# Altium schematic symbol library SCH - MCU - STM32 - ST MICROELECTRONICS STM32N657I0HXQ VFBGA178.SchLib: 1 symbol
Pins are listed as number, name and electrical type; pins without a type are passive.

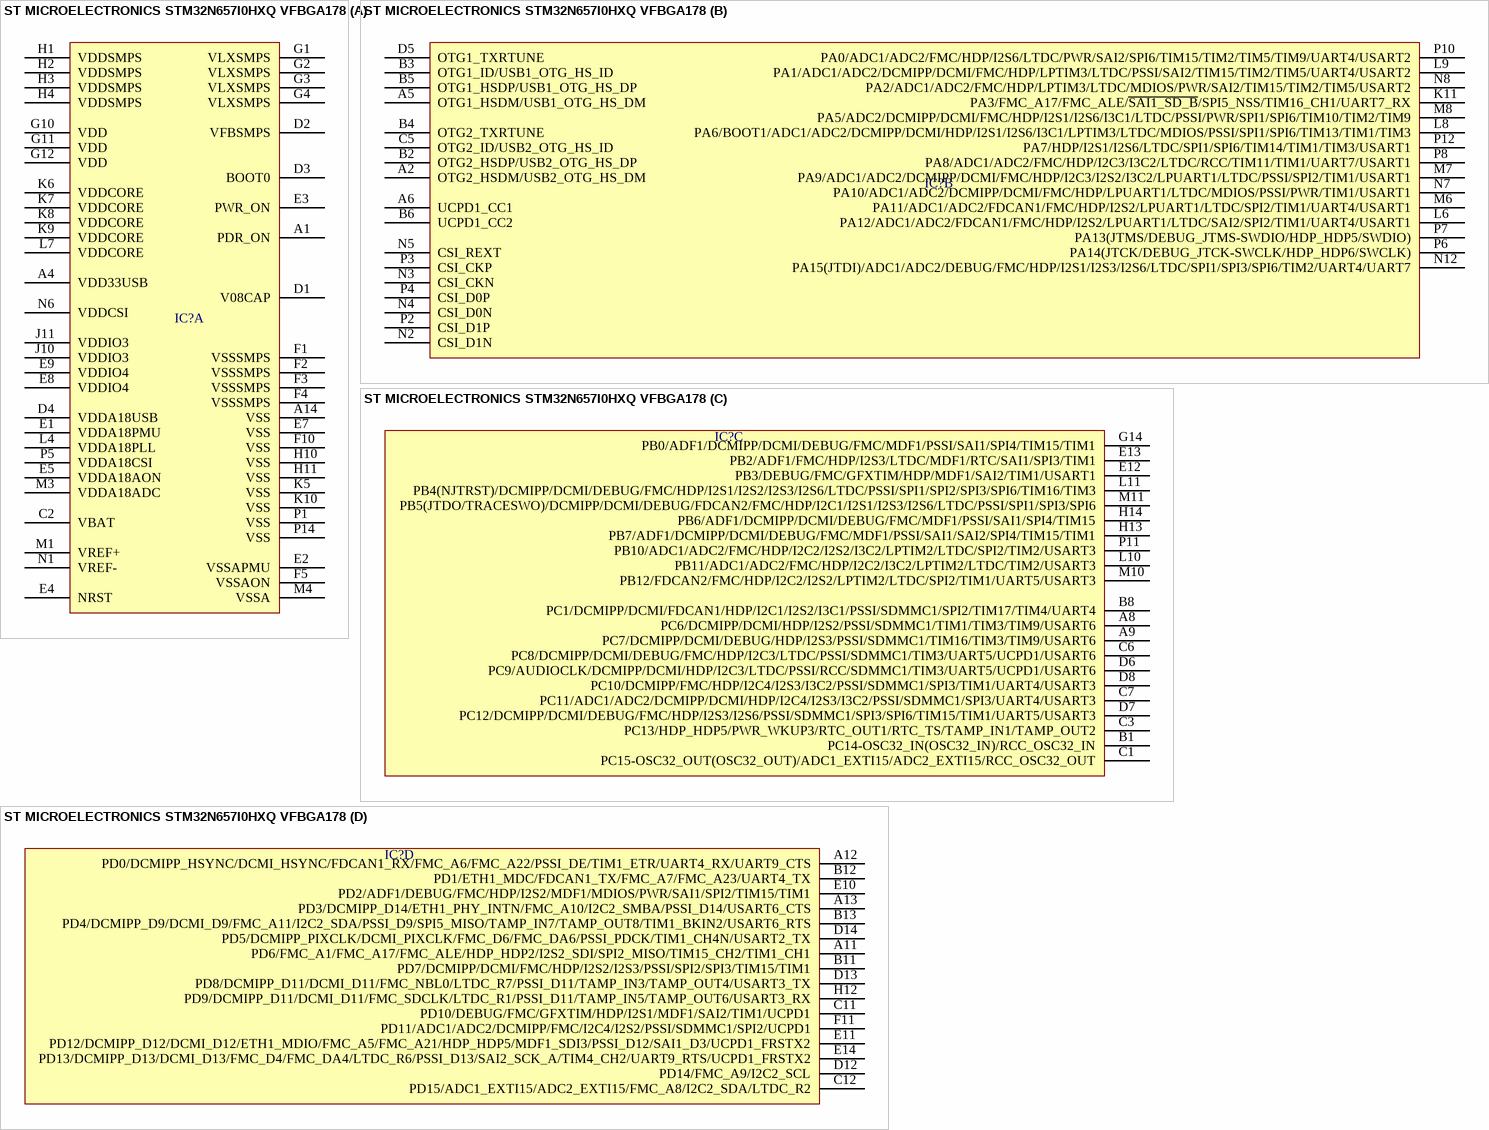
[diagram p0: symbol ST MICROELECTRONICS STM32N657I0HXQ VFBGA178]

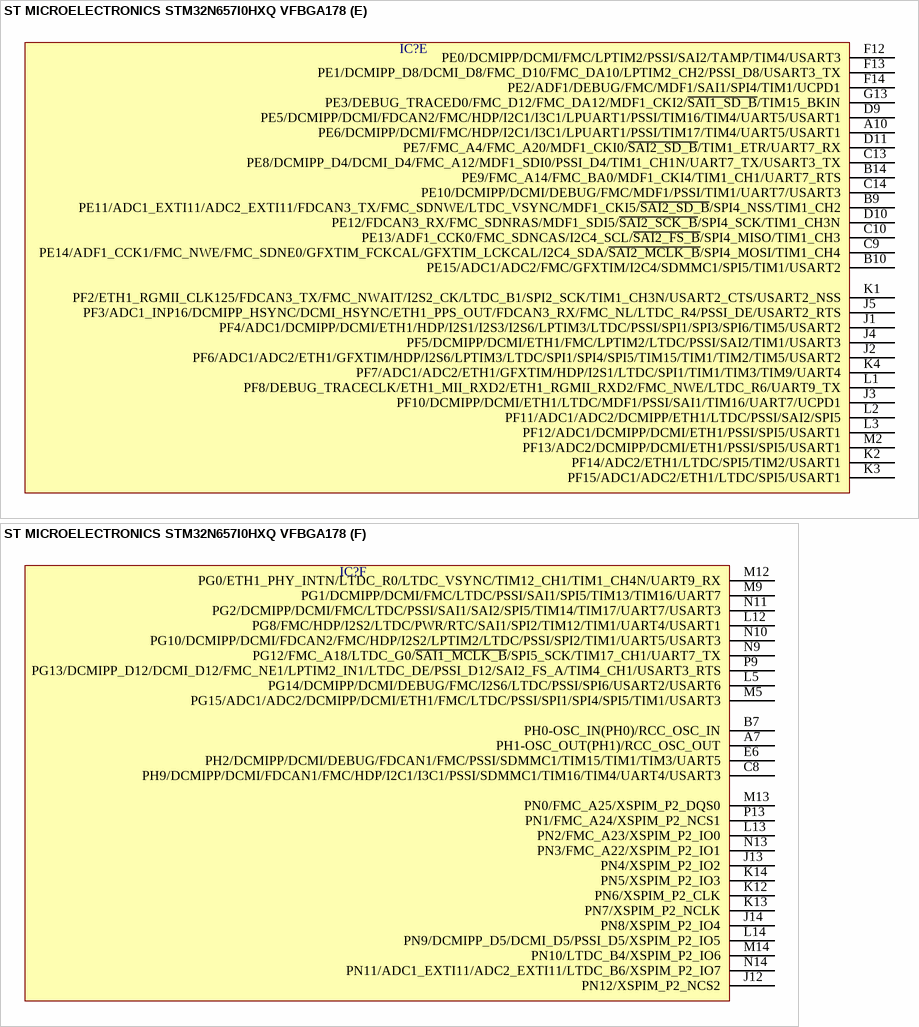
[diagram p1: symbol ST MICROELECTRONICS STM32N657I0HXQ VFBGA178]

## ST MICROELECTRONICS STM32N657I0HXQ VFBGA178
designator IC?
part A pins: A1 PDR_ON, A4 VDD33USB, A14 VSS, C2 VBAT, D1 V08CAP, D2 VFBSMPS, D3 BOOT0, D4 VDDA18USB, E1 VDDA18PMU, E2 VSSAPMU, E3 PWR_ON, E4 NRST, E5 VDDA18AON, E7 VSS, E8 VDDIO4, E9 VDDIO4, F1 VSSSMPS, F2 VSSSMPS, F3 VSSSMPS, F4 VSSSMPS, F5 VSSAON, F10 VSS, G1 VLXSMPS, G2 VLXSMPS, G3 VLXSMPS, G4 VLXSMPS, G10 VDD, G11 VDD, G12 VDD, H1 VDDSMPS, H2 VDDSMPS, H3 VDDSMPS, H4 VDDSMPS, H10 VSS, H11 VSS, J10 VDDIO3, J11 VDDIO3, K5 VSS, K6 VDDCORE, K7 VDDCORE, K8 VDDCORE, K9 VDDCORE, K10 VSS, L4 VDDA18PLL, L7 VDDCORE, M1 VREF+, M3 VDDA18ADC, M4 VSSA, N1 VREF-, N6 VDDCSI, P1 VSS, P5 VDDA18CSI, P14 VSS
part B pins: A2 OTG2_HSDM/USB2_OTG_HS_DM, A5 OTG1_HSDM/USB1_OTG_HS_DM, A6 UCPD1_CC1, B2 OTG2_HSDP/USB2_OTG_HS_DP, B3 OTG1_ID/USB1_OTG_HS_ID, B4 OTG2_TXRTUNE, B5 OTG1_HSDP/USB1_OTG_HS_DP, B6 UCPD1_CC2, C5 OTG2_ID/USB2_OTG_HS_ID, D5 OTG1_TXRTUNE, K11 PA3/FMC_A17/FMC_ALE/~{SAI1_SD_B}/SPI5_NSS/TIM16_CH1/UART7_RX, L6 PA12/ADC1/ADC2/FDCAN1/FMC/HDP/I2S2/LPUART1/LTDC/SAI2/SPI2/TIM1/UART4/USART1, L8 PA6/BOOT1/ADC1/ADC2/DCMIPP/DCMI/HDP/I2S1/I2S6/I3C1/LPTIM3/LTDC/MDIOS/PSSI/SPI1/SPI6/TIM13/TIM1/TIM3, L9 PA1/ADC1/ADC2/DCMIPP/DCMI/FMC/HDP/LPTIM3/LTDC/PSSI/SAI2/TIM15/TIM2/TIM5/UART4/USART2, M6 PA11/ADC1/ADC2/FDCAN1/FMC/HDP/I2S2/LPUART1/LTDC/SPI2/TIM1/UART4/USART1, M7 PA9/ADC1/ADC2/DCMIPP/DCMI/FMC/HDP/I2C3/I2S2/I3C2/LPUART1/LTDC/PSSI/SPI2/TIM1/USART1, M8 PA5/ADC2/DCMIPP/DCMI/FMC/HDP/I2S1/I2S6/I3C1/LTDC/PSSI/PWR/SPI1/SPI6/TIM10/TIM2/TIM9, N2 CSI_D1N, N3 CSI_CKN, N4 CSI_D0N, N5 CSI_REXT, N7 PA10/ADC1/ADC2/DCMIPP/DCMI/FMC/HDP/LPUART1/LTDC/MDIOS/PSSI/PWR/TIM1/USART1, N8 PA2/ADC1/ADC2/FMC/HDP/LPTIM3/LTDC/MDIOS/PWR/SAI2/TIM15/TIM2/TIM5/USART2, N12 PA15(JTDI)/ADC1/ADC2/DEBUG/FMC/HDP/I2S1/I2S3/I2S6/LTDC/SPI1/SPI3/SPI6/TIM2/UART4/UART7, P2 CSI_D1P, P3 CSI_CKP, P4 CSI_D0P, P6 PA14(JTCK/DEBUG_JTCK-SWCLK/HDP_HDP6/SWCLK), P7 PA13(JTMS/DEBUG_JTMS-SWDIO/HDP_HDP5/SWDIO), P8 PA8/ADC1/ADC2/FMC/HDP/I2C3/I3C2/LTDC/RCC/TIM11/TIM1/UART7/USART1, P10 PA0/ADC1/ADC2/FMC/HDP/I2S6/LTDC/PWR/SAI2/SPI6/TIM15/TIM2/TIM5/TIM9/UART4/USART2, P12 PA7/HDP/I2S1/I2S6/LTDC/SPI1/SPI6/TIM14/TIM1/TIM3/USART1
part C pins: A8 PC6/DCMIPP/DCMI/HDP/I2S2/PSSI/SDMMC1/TIM1/TIM3/TIM9/USART6, A9 PC7/DCMIPP/DCMI/DEBUG/HDP/I2S3/PSSI/SDMMC1/TIM16/TIM3/TIM9/USART6, B1 PC14-OSC32_IN(OSC32_IN)/RCC_OSC32_IN, B8 PC1/DCMIPP/DCMI/FDCAN1/HDP/I2C1/I2S2/I3C1/PSSI/SDMMC1/SPI2/TIM17/TIM4/UART4, C1 PC15-OSC32_OUT(OSC32_OUT)/ADC1_EXTI15/ADC2_EXTI15/RCC_OSC32_OUT, C3 PC13/HDP_HDP5/PWR_WKUP3/RTC_OUT1/RTC_TS/TAMP_IN1/TAMP_OUT2, C6 PC8/DCMIPP/DCMI/DEBUG/FMC/HDP/I2C3/LTDC/PSSI/SDMMC1/TIM3/UART5/UCPD1/USART6, C7 PC11/ADC1/ADC2/DCMIPP/DCMI/HDP/I2C4/I2S3/I3C2/PSSI/SDMMC1/SPI3/UART4/USART3, D6 PC9/AUDIOCLK/DCMIPP/DCMI/HDP/I2C3/LTDC/PSSI/RCC/SDMMC1/TIM3/UART5/UCPD1/USART6, D7 PC12/DCMIPP/DCMI/DEBUG/FMC/HDP/I2S3/I2S6/PSSI/SDMMC1/SPI3/SPI6/TIM15/TIM1/UART5/USART3, D8 PC10/DCMIPP/FMC/HDP/I2C4/I2S3/I3C2/PSSI/SDMMC1/SPI3/TIM1/UART4/USART3, E12 PB3/DEBUG/FMC/GFXTIM/HDP/MDF1/SAI2/TIM1/USART1, E13 PB2/ADF1/FMC/HDP/I2S3/LTDC/MDF1/RTC/SAI1/SPI3/TIM1, G14 PB0/ADF1/DCMIPP/DCMI/DEBUG/FMC/MDF1/PSSI/SAI1/SPI4/TIM15/TIM1, H13 PB7/ADF1/DCMIPP/DCMI/DEBUG/FMC/MDF1/PSSI/SAI1/SAI2/SPI4/TIM15/TIM1, H14 PB6/ADF1/DCMIPP/DCMI/DEBUG/FMC/MDF1/PSSI/SAI1/SPI4/TIM15, L10 PB11/ADC1/ADC2/FMC/HDP/I2C2/I3C2/LPTIM2/LTDC/TIM2/USART3, L11 PB4(NJTRST)/DCMIPP/DCMI/DEBUG/FMC/HDP/I2S1/I2S2/I2S3/I2S6/LTDC/PSSI/SPI1/SPI2/SPI3/SPI6/TIM16/TIM3, M10 PB12/FDCAN2/FMC/HDP/I2C2/I2S2/LPTIM2/LTDC/SPI2/TIM1/UART5/USART3, M11 PB5(JTDO/TRACESWO)/DCMIPP/DCMI/DEBUG/FDCAN2/FMC/HDP/I2C1/I2S1/I2S3/I2S6/LTDC/PSSI/SPI1/SPI3/SPI6, P11 PB10/ADC1/ADC2/FMC/HDP/I2C2/I2S2/I3C2/LPTIM2/LTDC/SPI2/TIM2/USART3
part D pins: A11 PD6/FMC_A1/FMC_A17/FMC_ALE/HDP_HDP2/I2S2_SDI/SPI2_MISO/TIM15_CH2/TIM1_CH1, A12 PD0/DCMIPP_HSYNC/DCMI_HSYNC/FDCAN1_RX/FMC_A6/FMC_A22/PSSI_DE/TIM1_ETR/UART4_RX/UART9_CTS, A13 PD3/DCMIPP_D14/ETH1_PHY_INTN/FMC_A10/I2C2_SMBA/PSSI_D14/USART6_CTS, B11 PD7/DCMIPP/DCMI/FMC/HDP/I2S2/I2S3/PSSI/SPI2/SPI3/TIM15/TIM1, B12 PD1/ETH1_MDC/FDCAN1_TX/FMC_A7/FMC_A23/UART4_TX, B13 PD4/DCMIPP_D9/DCMI_D9/FMC_A11/I2C2_SDA/PSSI_D9/SPI5_MISO/TAMP_IN7/TAMP_OUT8/TIM1_BKIN2/USART6_RTS, C11 PD10/DEBUG/FMC/GFXTIM/HDP/I2S1/MDF1/SAI2/TIM1/UCPD1, C12 PD15/ADC1_EXTI15/ADC2_EXTI15/FMC_A8/I2C2_SDA/LTDC_R2, D12 PD14/FMC_A9/I2C2_SCL, D13 PD8/DCMIPP_D11/DCMI_D11/FMC_NBL0/LTDC_R7/PSSI_D11/TAMP_IN3/TAMP_OUT4/USART3_TX, D14 PD5/DCMIPP_PIXCLK/DCMI_PIXCLK/FMC_D6/FMC_DA6/PSSI_PDCK/TIM1_CH4N/USART2_TX, E10 PD2/ADF1/DEBUG/FMC/HDP/I2S2/MDF1/MDIOS/PWR/SAI1/SPI2/TIM15/TIM1, E11 PD12/DCMIPP_D12/DCMI_D12/ETH1_MDIO/FMC_A5/FMC_A21/HDP_HDP5/MDF1_SDI3/PSSI_D12/SAI1_D3/UCPD1_FRSTX2, E14 PD13/DCMIPP_D13/DCMI_D13/FMC_D4/FMC_DA4/LTDC_R6/PSSI_D13/SAI2_SCK_A/TIM4_CH2/UART9_RTS/UCPD1_FRSTX2, F11 PD11/ADC1/ADC2/DCMIPP/FMC/I2C4/I2S2/PSSI/SDMMC1/SPI2/UCPD1, H12 PD9/DCMIPP_D11/DCMI_D11/FMC_SDCLK/LTDC_R1/PSSI_D11/TAMP_IN5/TAMP_OUT6/USART3_RX
part E pins: A10 PE6/DCMIPP/DCMI/FMC/HDP/I2C1/I3C1/LPUART1/PSSI/TIM17/TIM4/UART5/USART1, B9 PE11/ADC1_EXTI11/ADC2_EXTI11/FDCAN3_TX/FMC_SDNWE/LTDC_VSYNC/MDF1_CKI5/~{SAI2_SD_B}/SPI4_NSS/TIM1_CH2, B10 PE15/ADC1/ADC2/FMC/GFXTIM/I2C4/SDMMC1/SPI5/TIM1/USART2, B14 PE9/FMC_A14/FMC_BA0/MDF1_CKI4/TIM1_CH1/UART7_RTS, C9 PE14/ADF1_CCK1/FMC_NWE/FMC_SDNE0/GFXTIM_FCKCAL/GFXTIM_LCKCAL/I2C4_SDA/~{SAI2_MCLK_B}/SPI4_MOSI/TIM1_CH4, C10 PE13/ADF1_CCK0/FMC_SDNCAS/I2C4_SCL/~{SAI2_FS_B}/SPI4_MISO/TIM1_CH3, C13 PE8/DCMIPP_D4/DCMI_D4/FMC_A12/MDF1_SDI0/PSSI_D4/TIM1_CH1N/UART7_TX/USART3_TX, C14 PE10/DCMIPP/DCMI/DEBUG/FMC/MDF1/PSSI/TIM1/UART7/USART3, D9 PE5/DCMIPP/DCMI/FDCAN2/FMC/HDP/I2C1/I3C1/LPUART1/PSSI/TIM16/TIM4/UART5/USART1, D10 PE12/FDCAN3_RX/FMC_SDNRAS/MDF1_SDI5/~{SAI2_SCK_B}/SPI4_SCK/TIM1_CH3N, D11 PE7/FMC_A4/FMC_A20/MDF1_CKI0/~{SAI2_SD_B}/TIM1_ETR/UART7_RX, F12 PE0/DCMIPP/DCMI/FMC/LPTIM2/PSSI/SAI2/TAMP/TIM4/USART3, F13 PE1/DCMIPP_D8/DCMI_D8/FMC_D10/FMC_DA10/LPTIM2_CH2/PSSI_D8/USART3_TX, F14 PE2/ADF1/DEBUG/FMC/MDF1/SAI1/SPI4/TIM1/UCPD1, G13 PE3/DEBUG_TRACED0/FMC_D12/FMC_DA12/MDF1_CKI2/~{SAI1_SD_B}/TIM15_BKIN, J1 PF4/ADC1/DCMIPP/DCMI/ETH1/HDP/I2S1/I2S3/I2S6/LPTIM3/LTDC/PSSI/SPI1/SPI3/SPI6/TIM5/USART2, J2 PF6/ADC1/ADC2/ETH1/GFXTIM/HDP/I2S6/LPTIM3/LTDC/SPI1/SPI4/SPI5/TIM15/TIM1/TIM2/TIM5/USART2, J3 PF10/DCMIPP/DCMI/ETH1/LTDC/MDF1/PSSI/SAI1/TIM16/UART7/UCPD1, J4 PF5/DCMIPP/DCMI/ETH1/FMC/LPTIM2/LTDC/PSSI/SAI2/TIM1/USART3, J5 PF3/ADC1_INP16/DCMIPP_HSYNC/DCMI_HSYNC/ETH1_PPS_OUT/FDCAN3_RX/FMC_NL/LTDC_R4/PSSI_DE/USART2_RTS, K1 PF2/ETH1_RGMII_CLK125/FDCAN3_TX/FMC_NWAIT/I2S2_CK/LTDC_B1/SPI2_SCK/TIM1_CH3N/USART2_CTS/USART2_NSS, K2 PF14/ADC2/ETH1/LTDC/SPI5/TIM2/USART1, K3 PF15/ADC1/ADC2/ETH1/LTDC/SPI5/USART1, K4 PF7/ADC1/ADC2/ETH1/GFXTIM/HDP/I2S1/LTDC/SPI1/TIM1/TIM3/TIM9/UART4, L1 PF8/DEBUG_TRACECLK/ETH1_MII_RXD2/ETH1_RGMII_RXD2/FMC_NWE/LTDC_R6/UART9_TX, L2 PF11/ADC1/ADC2/DCMIPP/ETH1/LTDC/PSSI/SAI2/SPI5, L3 PF12/ADC1/DCMIPP/DCMI/ETH1/PSSI/SPI5/USART1, M2 PF13/ADC2/DCMIPP/DCMI/ETH1/PSSI/SPI5/USART1
part F pins: A7 PH1-OSC_OUT(PH1)/RCC_OSC_OUT, B7 PH0-OSC_IN(PH0)/RCC_OSC_IN, C8 PH9/DCMIPP/DCMI/FDCAN1/FMC/HDP/I2C1/I3C1/PSSI/SDMMC1/TIM16/TIM4/UART4/USART3, E6 PH2/DCMIPP/DCMI/DEBUG/FDCAN1/FMC/PSSI/SDMMC1/TIM15/TIM1/TIM3/UART5, J12 PN12/XSPIM_P2_NCS2, J13 PN4/XSPIM_P2_IO2, J14 PN8/XSPIM_P2_IO4, K12 PN6/XSPIM_P2_CLK, K13 PN7/XSPIM_P2_NCLK, K14 PN5/XSPIM_P2_IO3, L5 PG14/DCMIPP/DCMI/DEBUG/FMC/I2S6/LTDC/PSSI/SPI6/USART2/USART6, L12 PG8/FMC/HDP/I2S2/LTDC/PWR/RTC/SAI1/SPI2/TIM12/TIM1/UART4/USART1, L13 PN2/FMC_A23/XSPIM_P2_IO0, L14 PN9/DCMIPP_D5/DCMI_D5/PSSI_D5/XSPIM_P2_IO5, M5 PG15/ADC1/ADC2/DCMIPP/DCMI/ETH1/FMC/LTDC/PSSI/SPI1/SPI4/SPI5/TIM1/USART3, M9 PG1/DCMIPP/DCMI/FMC/LTDC/PSSI/SAI1/SPI5/TIM13/TIM16/UART7, M12 PG0/ETH1_PHY_INTN/LTDC_R0/LTDC_VSYNC/TIM12_CH1/TIM1_CH4N/UART9_RX, M13 PN0/FMC_A25/XSPIM_P2_DQS0, M14 PN10/LTDC_B4/XSPIM_P2_IO6, N9 PG12/FMC_A18/LTDC_G0/~{SAI1_MCLK_B}/SPI5_SCK/TIM17_CH1/UART7_TX, N10 PG10/DCMIPP/DCMI/FDCAN2/FMC/HDP/I2S2/LPTIM2/LTDC/PSSI/SPI2/TIM1/UART5/USART3, N11 PG2/DCMIPP/DCMI/FMC/LTDC/PSSI/SAI1/SAI2/SPI5/TIM14/TIM17/UART7/USART3, N13 PN3/FMC_A22/XSPIM_P2_IO1, N14 PN11/ADC1_EXTI11/ADC2_EXTI11/LTDC_B6/XSPIM_P2_IO7, P9 PG13/DCMIPP_D12/DCMI_D12/FMC_NE1/LPTIM2_IN1/LTDC_DE/PSSI_D12/SAI2_FS_A/TIM4_CH1/USART3_RTS, P13 PN1/FMC_A24/XSPIM_P2_NCS1